# Altium schematic symbol library SIM808_SCH.SchLib: 1 symbol
Pins are listed as number, name and electrical type; pins without a type are passive.

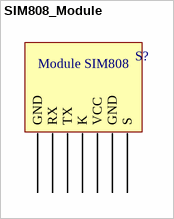
[diagram p0: symbol SIM808_Module]

## SIM808_Module
designator S?  (value not drawn)
footprint SIM808_Module
pins: 1 GND, 2 RX, 3 TX, 4 K, 5 VCC, 6 GND, 7 S
text: Module SIM808